# EAGLE library part MCP3421 (library aggiunte)
MCP3421 differential analog to i2c @ 12/14/18bit
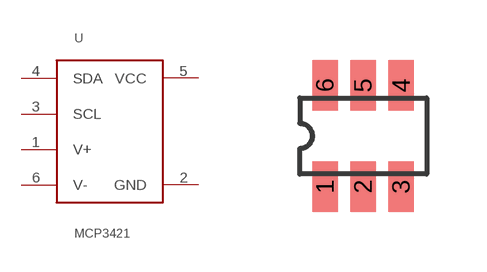
[diagram p6: symbol with the pads of MCP3421; footprint MCP3421]

Designator prefix -

## MCP3421  [MCP3421]
1  V+  in
2  GND  pwr
3  SCL  in
4  SDA
5  VCC  pwr
6  V-  in

## Footprint MCP3421 (pad centres in mm)
smd 0.635 x 1.27: 1 -0.953,-1.27; 2 0,-1.27; 3 0.953,-1.27; 4 0.953,1.27; 5 0,1.27; 6 -0.953,1.27